# Altium footprint library 2017_MADS.PcbLib: 5 footprints
Each footprint in its own frame and in the unit in brackets; x right, y up, seen from the top. Pads: shape width x height; smd on the part's side, far side on the other; paste and mask are expansions set on the pad; w line width, h text height; cw(c..) or ccw(c..) is an arc to the next point about the centre after c.
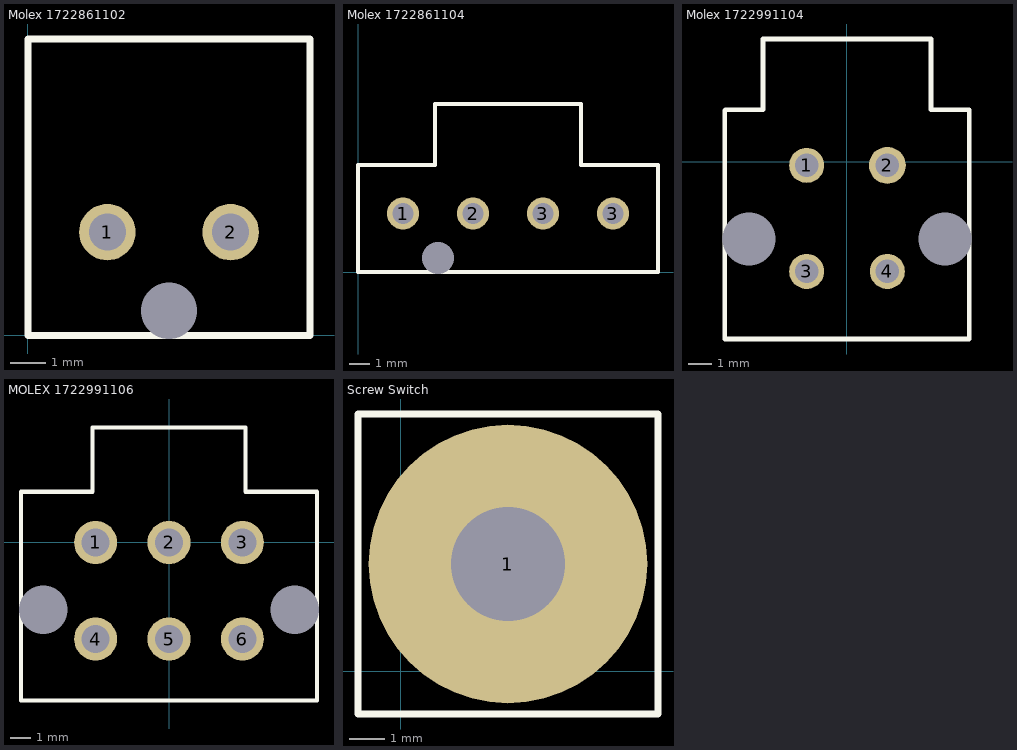
[diagram p0: the footprints below, top view; thin cyan lines are the x and y axes]

## Molex 1722861102 [mm]
pads (3):
  round 1.6 hole 1.05: 1(2.25,2.93) 2(5.75,2.93)
  round 0 hole 1.6: ""(4,0.7)
Top Overlay:
  lines w0.2: 0,0 8,0 8,8.41 0,8.41 0,0
3D body "1722861102.stp": height 14.05, standoff -2.9, extent -0.5,0 8.5,8.67

## Molex 1722861104 [mm]
pads (5):
  round 0 hole 1.6: 0(4,0.7)
  round 1.6 hole 1.05: 1(2.25,2.93) 2(5.75,2.93) 3(9.25,2.93) 3(12.75,2.93)
Top Overlay:
  lines w0.2: 0,0 0,5.35 3.855,5.35 3.855,8.41 11.145,8.41 11.145,5.35 15,5.35 15,0 0,0
3D body "1722861104.stp": height 14.05, standoff -3.1, extent -0.5,-0.135 15.5,8.535

## Molex 1722991104 [mm]
pads (6):
  round 1.52 hole 1.02: 1(-1.75,-0.15) 3(-1.75,-4.75) 4(1.75,-4.75)
  round 1.6 hole 1.02: 2(1.75,-0.15)
  round 0 hole 2.3: ""(-4.25,-3.353) ""(4.25,-3.353)
Top Overlay:
  lines w0.2: -5.3,-7.68 5.3,-7.68 5.3,2.27 3.645,2.27 3.645,5.33 -3.645,5.33 -3.645,2.27 -5.23,2.27 ccw(c-5.23,2.2) -5.3,2.2 -5.3,-7.68
3D body "1722991104.stp": height 14.1, standoff -3.1, extent -5.238,-8.403 5.362,5.507

## MOLEX 1722991106 [mm]
pads (8):
  round 2.05 hole 1.35: 1(-3.5,0) 2(0,0) 3(3.5,0) 4(-3.5,-4.6) 5(0,-4.6) 6(3.5,-4.6)
  round 0 hole 2.3: ""(-6,-3.203) ""(6,-3.203)
Top Overlay:
  lines w0.2: -7.05,-7.53 -7.05,2.42 -3.645,2.42 -3.645,5.48 3.645,5.48 3.645,2.42 7.05,2.42 7.05,-7.53 -7.05,-7.53
3D body "1722991106.stp": height 14.1, standoff -3.1, extent -7,-8.01 7.1,5.9

## Screw Switch [mm]
pads (1):
  round 7.8 hole 3.2 unplated: 1(3,3)
Top Overlay:
  lines w0.2: -1.2,-1.2 -1.2,7.2 7.2,7.2 7.2,-1.2 -1.2,-1.2